# Altium footprint library PulseGenFPLib.PcbLib: 39 footprints (part 1 of 3)
Each footprint in its own frame and in the unit in brackets; x right, y up, seen from the top. Pads: shape width x height; smd on the part's side, far side on the other; paste and mask are expansions set on the pad; w line width, h text height; cw(c..) or ccw(c..) is an arc to the next point about the centre after c.
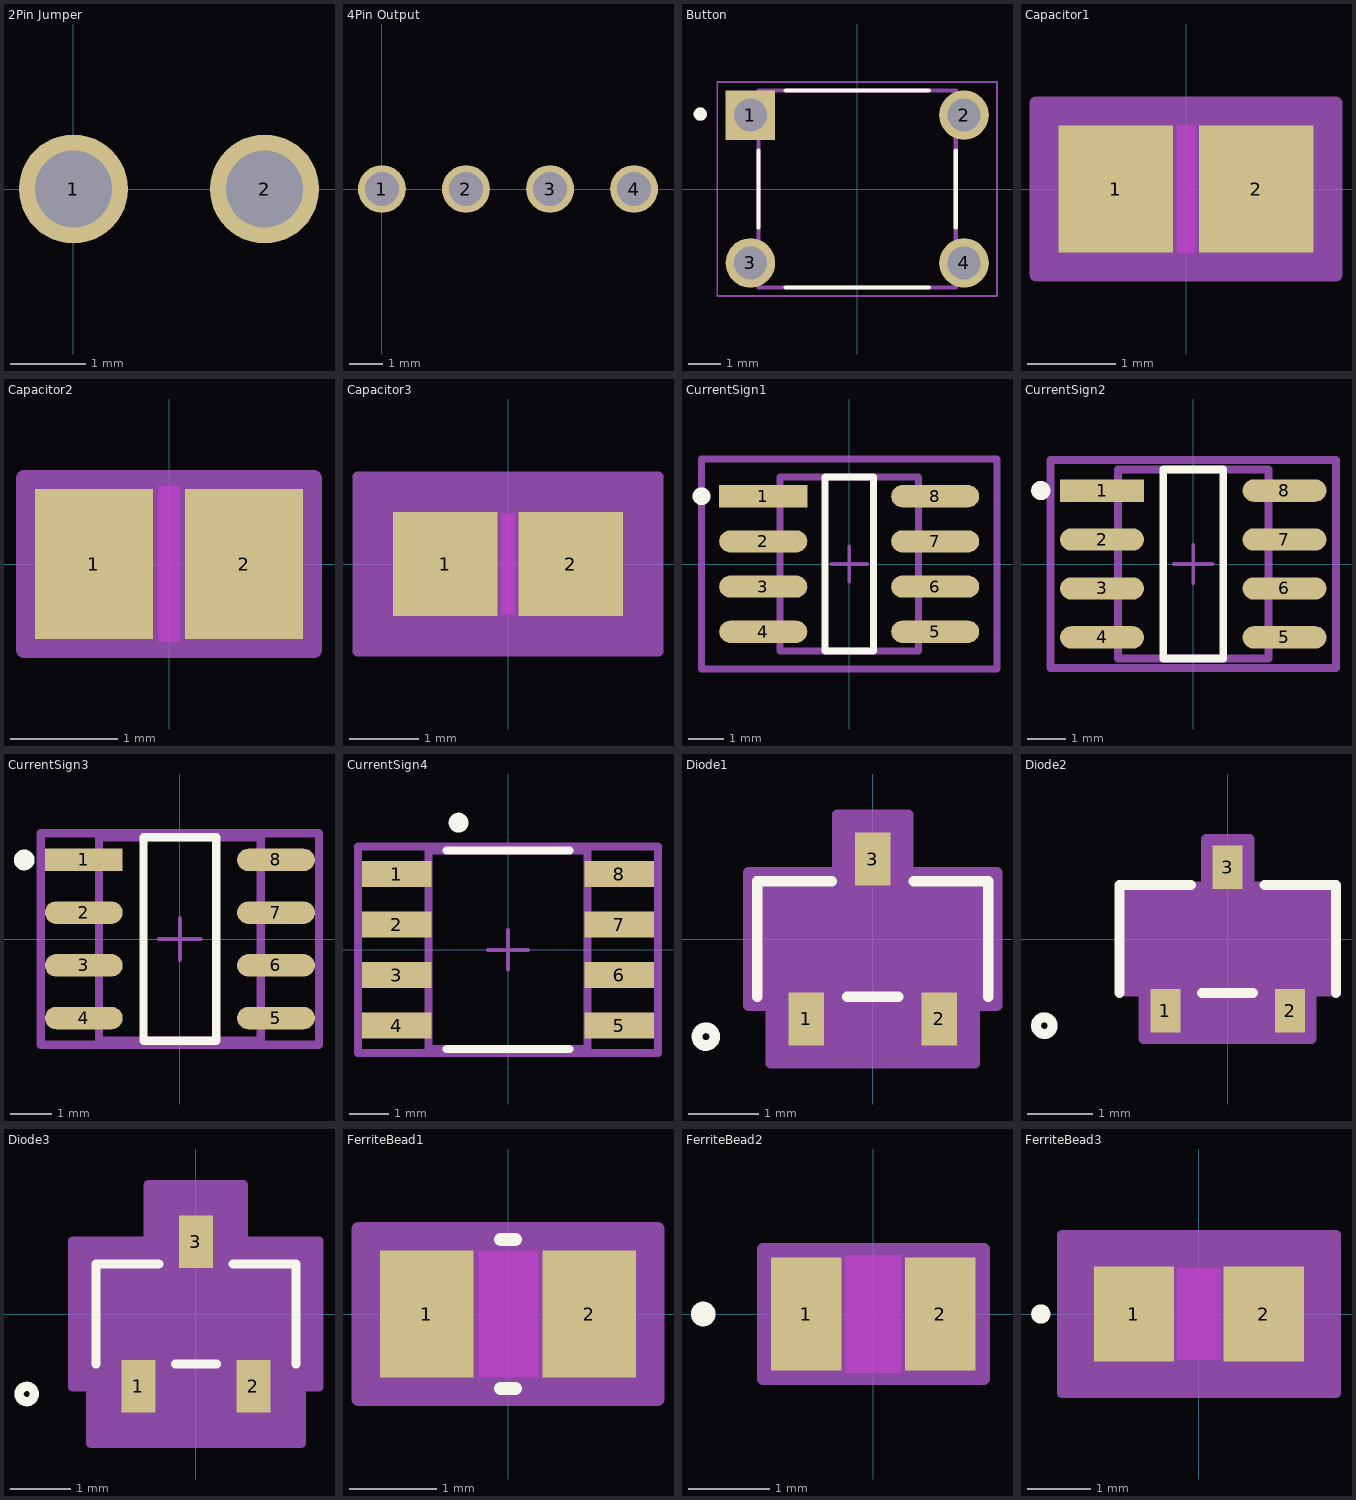
[diagram p0: the footprints below, top view; thin cyan lines are the x and y axes]

## 2Pin Jumper [mil]
pads (2):
  round 57 hole 40.16 paste-99999 mask+0: 1(0,0) 2(100,0)

## 4Pin Output [mil]
pads (4):
  round 57 hole 40.16 paste-99999 mask+0: 1(0,0) 2(100,0) 3(200,0) 4(300,0)

## Button [mm] "SW_TS02-66-60-BK-100-LCR-D"
pads (4):
  rect 1.508x1.508 / inner round 1.508 / far side rect 1.508x1.508 hole 1: 1(-3.25,2.25)
  round 1.508 hole 1: 2(3.25,2.25) 3(-3.25,-2.25) 4(3.25,-2.25)
Top Overlay:
  circle w0.2: c-4.774,2.277 r0.1
  lines w0.127: -3,-1.176 -3,1.176 ; -2.176,-3 2.176,-3 ; -2.176,3 2.176,3 ; 3,-1.176 3,1.176
Mechanical 13:
  circle w0.2: c-4.774,2.277 r0.1
  lines w0.127: -3,-3 -3,3 3,3 3,-3 -3,-3
Mechanical 15:
  lines w0.05: -4.254,-3.254 4.254,-3.254 4.254,3.254 -4.254,3.254 -4.254,-3.254

## Capacitor1 [mm]
pads (2):
  rect 1.306x1.45 smd paste+0 mask+0: 1(-0.803,0) 2(0.803,0)
Top Layer keep-out:
  region: -0.099,-0.674 -0.099,0.674 0.099,0.674 0.099,-0.674
Keep-Out Layer:
  region: -0.099,-0.725 -0.099,0.725 0.099,0.725 0.099,-0.725
Mechanical 13:
  lines w0.025: -1.1,-0.725 -1.1,0.725 ; -1.1,-0.725 -0.35,-0.725 -0.35,0.725 -1.1,0.725 ; -1.1,-0.725 1.1,-0.725 ; -1.1,-0.725 -1.1,0.725 ; -1.1,0.725 1.1,0.725 ; 1.1,-0.725 0.35,-0.725 0.35,0.725 1.1,0.725 ; 1.1,-0.725 1.1,0.725 ; 1.1,-0.725 1.1,0.725
Mechanical 15:
  region: 1.71,-0.979 -1.71,-0.979 -1.71,0.979 1.71,0.979
  lines w0.152: -1.71,-0.979 -1.71,0.979 1.71,0.979 1.71,-0.979 -1.71,-0.979
3D body "CAPC220145_110N_KEM.step": height 1.1, standoff 0, extent -1.1,-0.725 1.1,0.725

## Capacitor2 [mil]
pads (2):
  rect 43.4x55.09 smd paste+0 mask+0: 1(-27.61,0) 2(27.61,0)
Top Layer keep-out:
  region: -3.91,-26.54 -3.91,26.54 3.91,26.54 3.91,-26.54
Keep-Out Layer:
  region: -3.91,-28.54 -3.91,28.54 3.91,28.54 3.91,-28.54
Mechanical 13:
  lines w1: -43.31,-28.54 -43.31,28.54 ; -43.31,-28.54 -13.78,-28.54 -13.78,28.54 -43.31,28.54 ; -43.31,-28.54 43.31,-28.54 ; -43.31,-28.54 -43.31,28.54 ; -43.31,28.54 43.31,28.54 ; 43.31,-28.54 13.78,-28.54 13.78,28.54 43.31,28.54 ; 43.31,-28.54 43.31,28.54 ; 43.31,-28.54 43.31,28.54
Mechanical 15:
  region: 53.31,-31.54 -53.31,-31.54 -53.31,31.54 53.31,31.54
  lines w6: -53.31,-31.54 -53.31,31.54 53.31,31.54 53.31,-31.54 -53.31,-31.54
3D body "CAPC220145_110N_KEM.step": height 43.31, standoff 0, extent -43.31,-28.54 43.31,28.54

## Capacitor3 [mil]
pads (2):
  rect 59.4x59.09 smd paste+0 mask+0: 1(-35.61,0) 2(35.61,0)
Top Layer keep-out:
  region: -3.91,-26.54 -3.91,26.54 3.91,26.54 3.91,-26.54
Keep-Out Layer:
  region: -3.91,-28.54 -3.91,28.54 3.91,28.54 3.91,-28.54
Mechanical 13:
  lines w1: -43.31,-28.54 -43.31,28.54 ; -43.31,-28.54 -13.78,-28.54 -13.78,28.54 -43.31,28.54 ; -43.31,-28.54 43.31,-28.54 ; -43.31,-28.54 -43.31,28.54 ; -43.31,28.54 43.31,28.54 ; 43.31,-28.54 13.78,-28.54 13.78,28.54 43.31,28.54 ; 43.31,-28.54 43.31,28.54 ; 43.31,-28.54 43.31,28.54
Mechanical 15:
  region: 85.31,-49.54 -85.31,-49.54 -85.31,49.54 85.31,49.54
  lines w6: -85.31,-49.54 -85.31,49.54 85.31,49.54 85.31,-49.54 -85.31,-49.54
3D body "CAPC220145_110N_KEM.step": height 43.31, standoff 0, extent -43.31,-28.54 43.31,28.54

## CurrentSign1 [mil]
pads (8):
  rect 97.4x24.49 smd paste+0 mask+0: 1(-95.12,75)
  rrect100% 97.4x24.49 smd paste+0 mask+0: 2(-95.12,25) 3(-95.12,-25) 4(-95.12,-75) 5(95.12,-75) 6(95.12,-25) 7(95.12,25) 8(95.12,75)
Top Overlay:
  circle w9.84: c-163.51,75 r4.92
  lines w7.87: -26.73,-96.46 -26.73,96.46 26.73,96.46 26.73,-96.46 -26.73,-96.46
Top 3D Body:
  lines w7.87: -76.77,-96.46 -76.77,96.46 76.77,96.46 76.77,-96.46 -76.77,-96.46
Top Courtyard:
  lines w7.87: -163.51,-116.14 -163.51,116.14 163.51,116.14 163.51,-116.14 -163.51,-116.14
Top Assembly:
  lines w7.87: -163.51,-116.14 -163.51,116.14 163.51,116.14 163.51,-116.14 -163.51,-116.14
  text ".Designator" at 0,7.4 h39.37
Top Component Center:
  lines w3.94: -19.68,0 19.68,0 ; 0,-19.68 0,19.68
3D body "IC_Allegro_Microsystems_ACS71240LLCBTR-030B3_eec.STEP": height 10, standoff 0, extent -163.51,-116.14 163.51,116.14

## CurrentSign2 [mil]
pads (8):
  rect 85.59x22.92 smd paste+0 mask+0: 1(-93.15,75)
  rrect100% 85.59x22.92 smd paste+0 mask+0: 2(-93.15,25) 3(-93.15,-25) 4(-93.15,-75) 5(93.15,-75) 6(93.15,-25) 7(93.15,25) 8(93.15,75)
Top Overlay:
  circle w9.84: c-155.63,75 r4.92
  lines w7.87: -30.67,-96.46 -30.67,96.46 30.67,96.46 30.67,-96.46 -30.67,-96.46
Top 3D Body:
  lines w7.87: -76.77,-96.46 -76.77,96.46 76.77,96.46 76.77,-96.46 -76.77,-96.46
Top Courtyard:
  lines w7.87: -145.79,-106.3 -145.79,106.3 145.79,106.3 145.79,-106.3 -145.79,-106.3
Top Assembly:
  lines w7.87: -145.79,-106.3 -145.79,106.3 145.79,106.3 145.79,-106.3 -145.79,-106.3
  text ".Designator" at 0,7.4 h39.37
Top Component Center:
  lines w3.94: -19.68,0 19.68,0 ; 0,-19.68 0,19.68
3D body "IC_Allegro_Microsystems_ACS71240LLCBTR-030B3_eec.STEP": height 10, standoff 0, extent -145.79,-106.3 145.79,106.3

## CurrentSign3 [mil]
pads (8):
  rect 73.78x21.34 smd paste+0 mask+0: 1(-91.18,75)
  rrect100% 73.78x21.34 smd paste+0 mask+0: 2(-91.18,25) 3(-91.18,-25) 4(-91.18,-75) 5(91.18,-75) 6(91.18,-25) 7(91.18,25) 8(91.18,75)
Top Overlay:
  circle w9.84: c-147.76,75 r4.92
  lines w7.87: -34.61,-96.46 34.61,-96.46 34.61,96.46 -34.61,96.46 -34.61,-96.46
Top 3D Body:
  lines w7.87: -76.77,-96.46 76.77,-96.46 76.77,96.46 -76.77,96.46 -76.77,-96.46
Top Courtyard:
  lines w7.87: -132.01,-100.39 132.01,-100.39 132.01,100.39 -132.01,100.39 -132.01,-100.39
Top Assembly:
  lines w7.87: -132.01,-100.39 132.01,-100.39 132.01,100.39 -132.01,100.39 -132.01,-100.39
  text ".Designator" at 0,7.4 h39.37
Top Component Center:
  lines w3.94: -19.68,0 19.68,0 ; 0,-19.68 0,19.68
3D body "IC_Allegro_Microsystems_ACS71240LLCBTR-030B3_eec.STEP": height 10, standoff 0, extent -132.01,-100.39 132.01,100.39

## CurrentSign4 [mm]
pads (8):
  rect 1.75x0.65 smd paste+0 mask+0: 1(-2.8,1.905) 2(-2.8,0.635) 3(-2.8,-0.635) 4(-2.8,-1.905) 5(2.8,-1.905) 6(2.8,-0.635) 7(2.8,0.635) 8(2.8,1.905)
Top Overlay:
  circle w0.25: c-1.245,3.2 r0.125
  lines w0.2: -1.55,-2.5 1.55,-2.5 ; -1.55,2.5 1.55,2.5
Top 3D Body:
  lines w0.2: -2,-2.5 -2,2.5 2,2.5 2,-2.5 -2,-2.5
Top Courtyard:
  lines w0.2: -3.775,-2.6 -3.775,2.6 3.775,2.6 3.775,-2.6 -3.775,-2.6
Top Assembly:
  lines w0.2: -3.775,-2.6 -3.775,2.6 3.775,2.6 3.775,-2.6 -3.775,-2.6
  text ".Designator" at 0,0.188 h1
Top Component Center:
  lines w0.1: -0.5,0 0.5,0 ; 0,-0.5 0,0.5
3D body "IC_Allegro_Microsystems_ACS71240LLCBTR-030B3_eec.STEP": height 0.25, standoff 0, extent -3.775,-2.6 3.775,2.6

## Diode1 [mil]
pads (3):
  rect 20x30 smd paste+0 mask+0: 1(-37.4,-45) 2(37.4,-45) 3(0,45)
Top Overlay:
  circle w6: c-94,-55 r5
  lines w6: -65,-32.5 -65,32.5 -23.1,32.5 ; -14.3,-32.5 14.3,-32.5 ; 23.1,32.5 65,32.5 65,-32.5
Mechanical 13:
  circle w0: c-50,-17.5 r5
  lines w1: -60,-27.5 60,-27.5 60,27.5 -60,27.5 -60,-27.5 ; -47.4,-52 -47.4,-27.5 -27.4,-27.5 -27.4,-52 -47.4,-52 ; -10,27.5 10,27.5 10,52 -10,52 -10,27.5 ; 27.4,-52 27.4,-27.5 47.4,-27.5 47.4,-52 27.4,-52
Mechanical 15:
  region: -70,-37.5 -70,37.5 -20,37.5 -20,70 20,70 20,37.5 70,37.5 70,-37.5 57.4,-37.5 57.4,-70 -57.4,-70 -57.4,-37.5
  region: 60,-27.5 -60,-27.5 -60,27.5 60,27.5
  lines w6: -70,-37.5 -70,37.5 -20,37.5 -20,70 20,70 20,37.5 70,37.5 70,-37.5 57.4,-37.5 57.4,-70 -57.4,-70 -57.4,-37.5 -70,-37.5
3D body "SOT-23_TO-236_318-AT_OSI.step": height 46.1, standoff 0, extent -60,-41 60,41

## Diode2 [mil]
pads (3):
  rect 18x26 smd paste+0 mask+0: 1(-37.4,-43) 2(37.4,-43) 3(0,43)
Top Overlay:
  circle w6: c-110,-52 r5
  lines w6: -65,-32.5 -65,32.5 -22.1,32.5 ; -15.3,-32.5 15.3,-32.5 ; 22.1,32.5 65,32.5 65,-32.5
Mechanical 13:
  circle w0: c-50,-17.5 r5
  lines w1: -60,-27.5 -60,27.5 60,27.5 60,-27.5 -60,-27.5 ; -47.4,-52 -27.4,-52 -27.4,-27.5 -47.4,-27.5 -47.4,-52 ; -10,27.5 -10,52 10,52 10,27.5 -10,27.5 ; 27.4,-52 47.4,-52 47.4,-27.5 27.4,-27.5 27.4,-52
Mechanical 15:
  region: 60,-27.5 -60,-27.5 -60,27.5 60,27.5
  region: -64,-31.5 -64,31.5 -14,31.5 -14,60 14,60 14,31.5 64,31.5 64,-31.5 51.4,-31.5 51.4,-60 -51.4,-60 -51.4,-31.5
  lines w6: -64,-31.5 -50.4,-31.5 -50.4,-60 50.4,-60 50.4,-31.5 64,-31.5 64,31.5 13,31.5 13,60 -13,60 -13,31.5 -64,31.5 -64,-31.5
3D body "SOT-23_TO-236_318-AT_OSI.step": height 46.1, standoff 0, extent -60,-41 60,41

## Diode3 [mil]
pads (3):
  rect 22x34 smd paste+0 mask+0: 1(-37.4,-47) 2(37.4,-47) 3(0,47)
Top Overlay:
  circle w6: c-110,-52 r5
  lines w6: -65,-32.5 -65,32.5 -24.1,32.5 ; -13.3,-32.5 13.3,-32.5 ; 24.1,32.5 65,32.5 65,-32.5
Mechanical 13:
  circle w0: c-50,-17.5 r5
  lines w1: -60,-27.5 60,-27.5 60,27.5 -60,27.5 -60,-27.5 ; -47.4,-52 -47.4,-27.5 -27.4,-27.5 -27.4,-52 -47.4,-52 ; -10,27.5 10,27.5 10,52 -10,52 -10,27.5 ; 27.4,-52 27.4,-27.5 47.4,-27.5 47.4,-52 27.4,-52
Mechanical 15:
  region: -80,-47.5 -80,47.5 -30,47.5 -30,84 30,84 30,47.5 80,47.5 80,-47.5 67.4,-47.5 67.4,-84 -67.4,-84 -67.4,-47.5
  region: 60,-27.5 -60,-27.5 -60,27.5 60,27.5
  lines w6: -80,-47.5 -80,47.5 -31,47.5 -31,84 31,84 31,47.5 80,47.5 80,-47.5 68.4,-47.5 68.4,-84 -68.4,-84 -68.4,-47.5 -80,-47.5
3D body "SOT-23_TO-236_318-AT_OSI.step": height 46.1, standoff 0, extent -60,-41 60,41

## FerriteBead1 [mil]
pads (2):
  rect 42x57 smd paste+0 mask+0: 1(-36.5,0) 2(36.5,0)
Top Layer keep-out:
  region: -13.5,-26.5 -13.5,26.5 13.5,26.5 13.5,-26.5
Top Overlay:
  lines w6: -3.39,-33.5 3.39,-33.5 ; -3.39,33.5 3.39,33.5
Keep-Out Layer:
  region: -13.5,-28.5 -13.5,28.5 13.5,28.5 13.5,-28.5
Mechanical 13:
  lines w1: -43.5,-28.5 -43.5,28.5 ; -43.5,-28.5 43.5,-28.5 ; -43.5,-28.5 -15.5,-28.5 -15.5,28.5 -43.5,28.5 ; -43.5,-28.5 -43.5,28.5 ; -43.5,28.5 43.5,28.5 ; 43.5,-28.5 43.5,28.5 ; 43.5,-28.5 43.5,28.5 ; 43.5,-28.5 15.5,-28.5 15.5,28.5 43.5,28.5
Mechanical 15:
  region: 67.5,-38.5 -67.5,-38.5 -67.5,38.5 67.5,38.5
  lines w6: -67.5,-38.5 67.5,-38.5 67.5,38.5 -67.5,38.5 -67.5,-38.5
3D body "IND_BLM21_MUR.step": height 40.98, standoff 0, extent -43.5,-28.5 43.5,28.5

## FerriteBead2 [mil]
pads (2):
  rect 34x55 smd paste+0 mask+0: 1(-32.5,0) 2(32.5,0)
Top Layer keep-out:
  region: -13.5,-26.5 -13.5,26.5 13.5,26.5 13.5,-26.5
Top Overlay:
  circle w6: c-82.5,0 r3
Keep-Out Layer:
  region: -13.5,-28.5 -13.5,28.5 13.5,28.5 13.5,-28.5
Mechanical 13:
  circle w0: c-27.5,0 r3
  lines w1: -43.5,-28.5 -43.5,28.5 ; -43.5,-28.5 43.5,-28.5 ; -43.5,-28.5 -15.5,-28.5 -15.5,28.5 -43.5,28.5 ; -43.5,-28.5 -43.5,28.5 ; -43.5,28.5 43.5,28.5 ; 43.5,-28.5 43.5,28.5 ; 43.5,-28.5 43.5,28.5 ; 43.5,-28.5 15.5,-28.5 15.5,28.5 43.5,28.5
Mechanical 15:
  region: 53.5,-31.5 -53.5,-31.5 -53.5,31.5 53.5,31.5
  lines w6: -53.5,-31.5 53.5,-31.5 53.5,31.5 -53.5,31.5 -53.5,-31.5
3D body "IND_BLM21_MUR.step": height 40.98, standoff 0, extent -43.5,-28.5 43.5,28.5

## FerriteBead3 [mil]
pads (2):
  rect 50x59 smd paste+0 mask+0: 1(-40.5,0) 2(40.5,0)
Top Layer keep-out:
  region: -13.5,-26.5 -13.5,26.5 13.5,26.5 13.5,-26.5
Top Overlay:
  circle w6: c-98.5,0 r3
Keep-Out Layer:
  region: -13.5,-28.5 -13.5,28.5 13.5,28.5 13.5,-28.5
Mechanical 13:
  circle w0: c-35.5,0 r3
  lines w1: -43.5,-28.5 -43.5,28.5 ; -43.5,-28.5 43.5,-28.5 ; -43.5,-28.5 -15.5,-28.5 -15.5,28.5 -43.5,28.5 ; -43.5,-28.5 -43.5,28.5 ; -43.5,28.5 43.5,28.5 ; 43.5,-28.5 43.5,28.5 ; 43.5,-28.5 43.5,28.5 ; 43.5,-28.5 15.5,-28.5 15.5,28.5 43.5,28.5
Mechanical 15:
  region: 85.5,-49.5 -85.5,-49.5 -85.5,49.5 85.5,49.5
  lines w6: -85.5,-49.5 85.5,-49.5 85.5,49.5 -85.5,49.5 -85.5,-49.5
3D body "IND_BLM21_MUR.step": height 40.98, standoff 0, extent -43.5,-28.5 43.5,28.5